# Altium schematic symbol library Schlib_Bosch.SchLib: 2 symbols
Pins are listed as number, name and electrical type; pins without a type are passive.

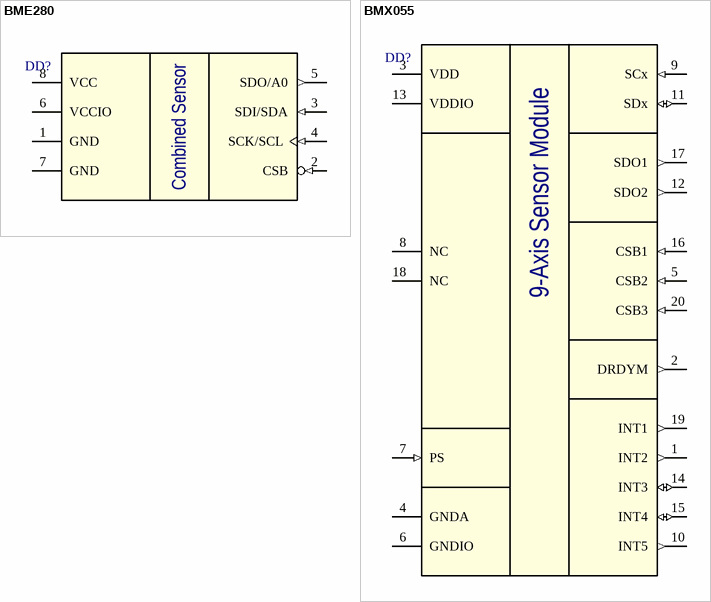
[diagram p0: symbols BME280 to BMX055]

## BME280
designator DD?  (value not drawn)
Temperature, Humidity, Pressure Sensor; Manufacturer: Bosch Sensortec; Package: LGA8-2.5; Part Number: BME280
footprint LGA8 (LGA-8 2.5 x 2.5mm)
pins: 1 GND (power), 2 CSB (in), 3 SDI/SDA (in), 4 SCK/SCL (in), 5 SDO/A0 (out), 6 VCCIO (power), 7 GND (power), 8 VCC (power)
text: Combined Sensor

## BMX055
designator DD?  (value not drawn)
Absolute Orientation 9-Axis Sensor; Manufacturer: Bosch Sensortec; Package: LGA-20; Part Number: BMX055
footprint LGA-20 (LGA-20, 20-Leads, Body 4,50x3,00mm, Pitch 0,50mm)
pins: 1 INT2 (out), 2 DRDYM (out), 3 VDD (power), 4 GNDA (power), 5 CSB2 (in), 6 GNDIO (power), 7 PS (in), 8 NC (hiz), 9 SCx (in), 10 INT5 (out), 11 SDx (io), 12 SDO2 (out), 13 VDDIO (power), 14 INT3 (io), 15 INT4 (io), 16 CSB1 (in), 17 SDO1 (out), 18 NC (hiz), 19 INT1 (out), 20 CSB3 (in)
text: 9-Axis Sensor Module